# EAGLE library part 75161 (library 751xx)
75xxx DEVICE
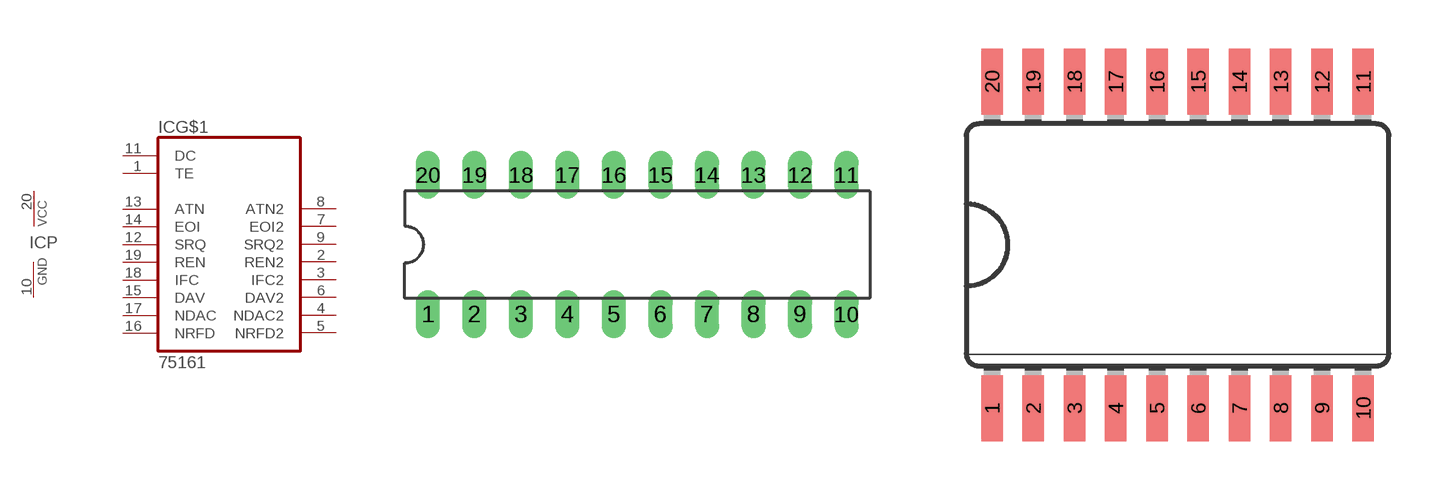
[diagram p10: symbol with the pads of DIL20; footprints DIL20, SO20L]

Designator prefix IC; gates G$1=75161 P=PWRN

## 75161P  [DIL20]
1  G$1:TE  in
2  G$1:REN2
3  G$1:IFC2
4  G$1:NDAC2
5  G$1:NRFD2
6  G$1:DAV2
7  G$1:EOI2
8  G$1:ATN2
9  G$1:SRQ2
10  P:GND  pwr
11  G$1:DC  in
12  G$1:SRQ
13  G$1:ATN
14  G$1:EOI
15  G$1:DAV
16  G$1:NRFD
17  G$1:NDAC
18  G$1:IFC
19  G$1:REN
20  P:VCC  pwr

## 75161SO  [SO20L]
Pads as for DIL20

## Footprint DIL20 (pad centres in mm)
Dual In Line Package
drill 0.813 long: 1 -11.43,-3.81; 2 -8.89,-3.81; 3 -6.35,-3.81; 4 -3.81,-3.81; 5 -1.27,-3.81; 6 1.27,-3.81; 7 3.81,-3.81; 8 6.35,-3.81; 9 8.89,-3.81; 10 11.43,-3.81; 11 11.43,3.81; 12 8.89,3.81; 13 6.35,3.81; 14 3.81,3.81; 15 1.27,3.81; 16 -1.27,3.81; 17 -3.81,3.81; 18 -6.35,3.81; 19 -8.89,3.81; 20 -11.43,3.81

## Footprint SO20L (pad centres in mm)
Small Outline package large
smd 0.66 x 2.032: 1 -5.715,-5.029; 2 -4.445,-5.029; 3 -3.175,-5.029; 4 -1.905,-5.029; 5 -0.635,-5.029; 6 0.635,-5.029; 7 1.905,-5.029; 8 3.175,-5.029; 9 4.445,-5.029; 10 5.715,-5.029; 11 5.715,5.029; 12 4.445,5.029; 13 3.175,5.029; 14 1.905,5.029; 15 0.635,5.029; 16 -0.635,5.029; 17 -1.905,5.029; 18 -3.175,5.029; 19 -4.445,5.029; 20 -5.715,5.029